# Altium footprint library HMC6352_SF.PcbLib: 1 footprints
Each footprint in its own frame and in the unit in brackets; x right, y up, seen from the top. Pads: shape width x height; smd on the part's side, far side on the other; paste and mask are expansions set on the pad; w line width, h text height; cw(c..) or ccw(c..) is an arc to the next point about the centre after c.
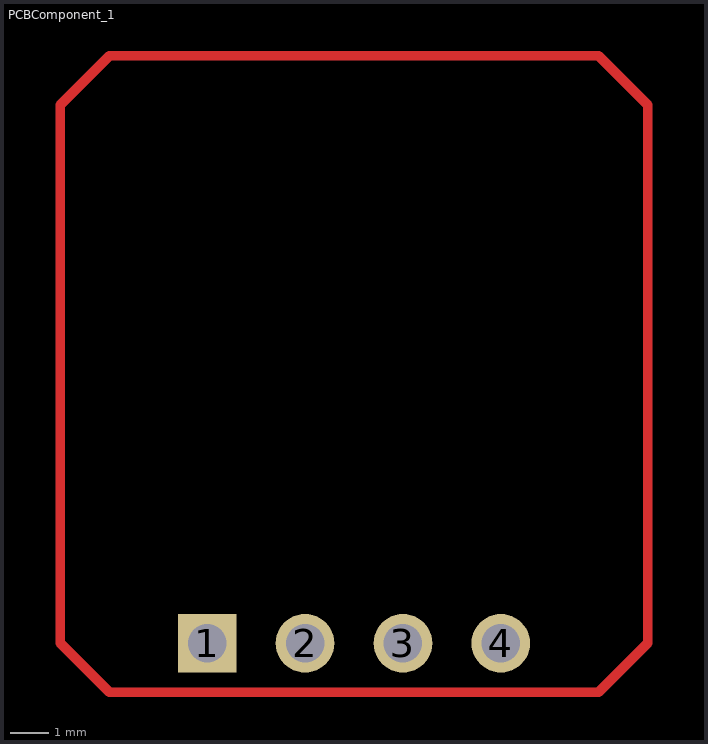
[diagram p0: the footprint, top view; thin cyan lines are the x and y axes]

## PCBComponent_1 [mil]
pads (4):
  rect 60x60 hole 39.37: 1(-49600,-49800)
  round 60 hole 39.37: 2(-49500,-49800) 3(-49400,-49800) 4(-49300,-49800)
Top Layer:
  lines w10: -49750,-49800 -49700,-49850 -49200,-49850 -49150,-49800 -49150,-49250 -49200,-49200 -49700,-49200 -49750,-49250 -49750,-49800
  text "HMC6352" at -49650,-49440 h60